# Altium footprint library SM_HeatSink_TO-263.PcbLib: 1 footprints
Each footprint in its own frame and in the unit in brackets; x right, y up, seen from the top. Pads: shape width x height; smd on the part's side, far side on the other; paste and mask are expansions set on the pad; w line width, h text height; cw(c..) or ccw(c..) is an arc to the next point about the centre after c.
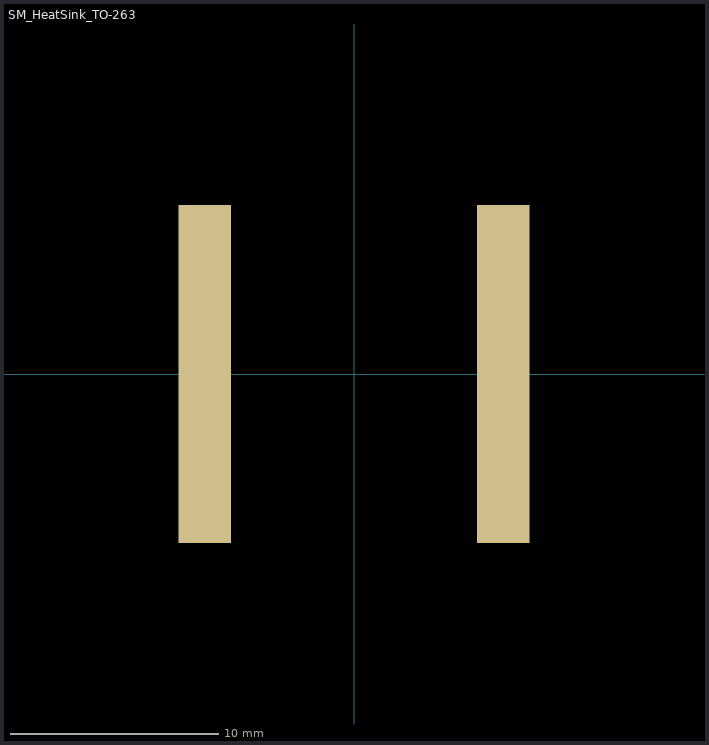
[diagram p0: the footprint, top view; thin cyan lines are the x and y axes]

## SM_HeatSink_TO-263 [mil]
height 360
pads (2):
  rect 100x640 smd: ""(-283,0) ""(283,0)
3D body: height 390, standoff 215, extent -520,-320 520,320.01